# Altium footprint library 1718570004.PcbLib: 1 footprints
Each footprint in its own frame and in the unit in brackets; x right, y up, seen from the top. Pads: shape width x height; smd on the part's side, far side on the other; paste and mask are expansions set on the pad; w line width, h text height; cw(c..) or ccw(c..) is an arc to the next point about the centre after c.
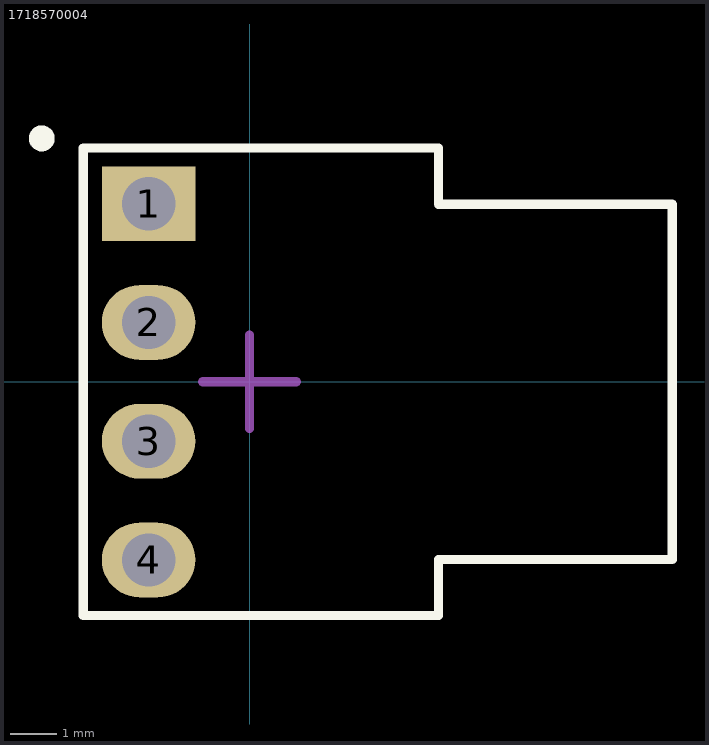
[diagram p0: the footprint, top view; thin cyan lines are the x and y axes]

## 1718570004 [mm]
height 6.2
pads (4):
  rect 2x1.6 hole 1.14: 1(-2.159,3.81)
  oval 2x1.6 hole 1.14: 2(-2.159,1.27) 3(-2.159,-1.27) 4(-2.159,-3.81)
Top Overlay:
  circle w0.3: c-4.445,5.207 r0.127
  lines w0.2: -3.559,-5 -3.559,5 4.041,5 4.041,3.8 9.041,3.8 9.041,-3.8 4.041,-3.8 4.041,-5 -3.559,-5
Mechanical 15:
  lines w0.2: -1,0 0,0 ; 0,-1 0,0 ; 0,1 0,0 ; 1,0 0,0
3D body "1718570004.stp": height 6.38, standoff -2.51, extent -2.362,-5.004 11.303,5.004